# Altium schematic symbol library XT60.SchLib: 1 symbol
Pins are listed as number, name and electrical type; pins without a type are passive.

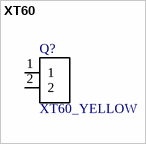
[diagram p0: symbol XT60]

## XT60
designator Q?, comment XT60_YELLOW
Power connector; 65A; PIN: 2; Colour: yellow-Male; MP: XT60 YELLOW; MF: Pololu; Availability: Unavailable; Package: None; Price: None; SnapEDA_Link: https://www.snapeda.com/parts/XT60%20YELLOW/Pololu/view-part/423230/?ref=snap; Value: *
footprint *AMASS_XT60PB-M
pins: 1, 2